# EAGLE library part MAX991ESA+ (library Cosmic Pi Main Board V2.4 OHWR)
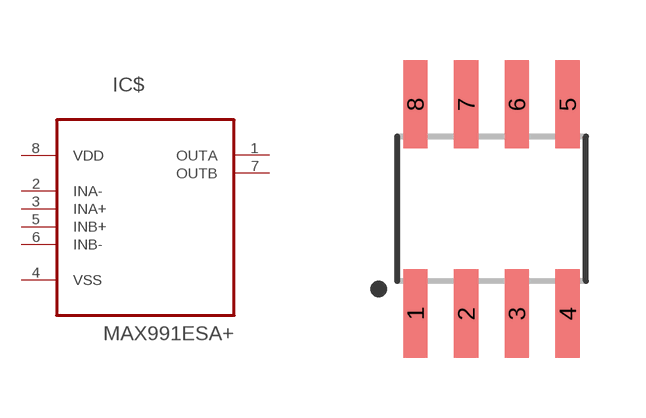
[diagram p5: symbol with the pads of SOIC-8; footprint SOIC-8]

Designator prefix IC$

## MAX991ESA+  [SOIC-8]
1  OUTA  out
2  INA-  in
3  INA+  in
4  VSS  pwr
5  INB+  in
6  INB-  in
7  OUTB  out
8  VDD  pwr

## Footprint SOIC-8 (pad centres in mm)
smd 0.61 x 2.21: 1 -1.905,-2.616; 2 -0.635,-2.616; 3 0.635,-2.616; 4 1.905,-2.616; 5 1.905,2.616; 6 0.635,2.616; 7 -0.635,2.616; 8 -1.905,2.616